# Altium schematic symbol library JTAG Header.Schlib: 1 symbol
Pins are listed as number, name and electrical type; pins without a type are passive.

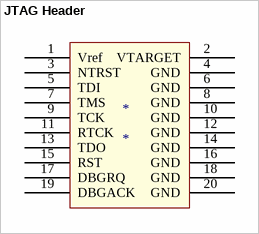
[diagram p0: symbol JTAG Header]

## JTAG Header
designator *
pins: 1 Vref, 2 VTARGET, 3 NTRST, 4 GND, 5 TDI, 6 GND, 7 TMS, 8 GND, 9 TCK, 10 GND, 11 RTCK, 12 GND, 13 TDO, 14 GND, 15 RST, 16 GND, 17 DBGRQ, 18 GND, 19 DBGACK, 20 GND